# Altium schematic symbol library AT45DBXXX.SchLib: 1 symbol
Pins are listed as number, name and electrical type; pins without a type are passive.

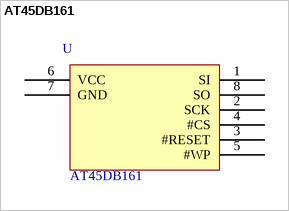
[diagram p0: symbol AT45DB161]

## AT45DB161
designator U  value AT45DB161  (hidden comment: *)
Manufacturer: ATMEL; Manufacturer Code: AT45DB161D-SU; Memory: 16Mbit; Farnell Code: 1455040; Unit Price: 3,49 €
footprint SO8W
pins: 1 SI, 2 SCK, 3 #RESET, 4 #CS, 5 #WP, 6 VCC, 7 GND, 8 SO